# Altium footprint library 3006.PcbLib: 1 footprints
Each footprint in its own frame and in the unit in brackets; x right, y up, seen from the top. Pads: shape width x height; smd on the part's side, far side on the other; paste and mask are expansions set on the pad; w line width, h text height; cw(c..) or ccw(c..) is an arc to the next point about the centre after c.
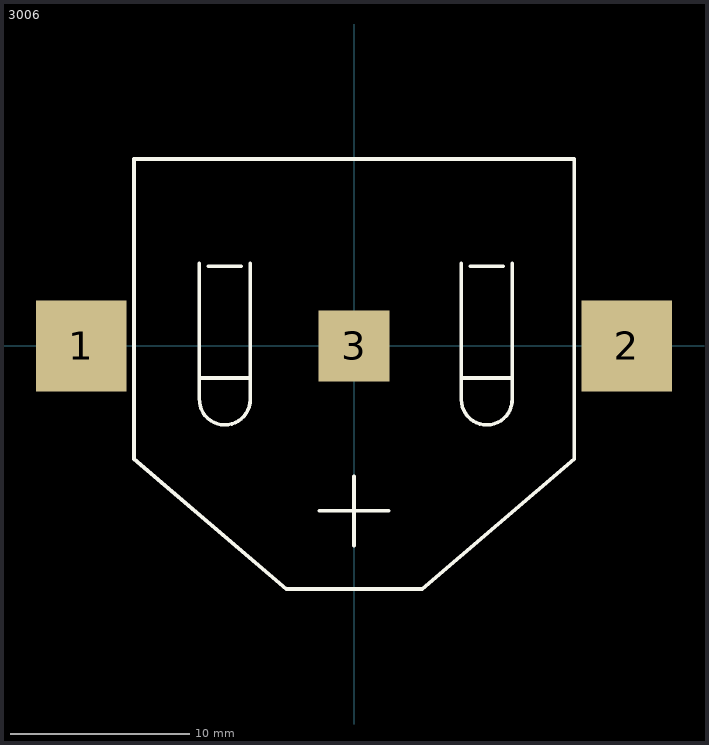
[diagram p0: the footprint, top view; thin cyan lines are the x and y axes]

## 3006 [mm] "24mm Coin Cell Battery Clip"
pads (3):
  rect 5.08x5.08 smd: 1(-15.24,0) 2(15.24,0)
  rect 3.96x3.96 smd: 3(0,0)
Top Overlay:
  lines w0.2: -12.294,-6.325 -12.294,10.439 12.319,10.439 12.319,-6.325 3.821,-13.589 -3.785,-13.589 -12.294,-6.317 ; -8.637,-3 -8.637,4.6 ; -8.637,-1.8 -5.797,-1.8 ; -8.636,-2.954 ccw(c-7.217,-3) -5.797,-3 -5.797,4.6 ; -8.137,4.45 -6.297,4.45 ; -1.95,-9.228 1.95,-9.228 ; 0,-11.178 0,-7.278 ; 6,-1.8 8.84,-1.8 ; 6,4.6 6,-3 ccw(c7.42,-3) 8.839,-2.954 ; 6.5,4.45 8.34,4.45 ; 8.84,-3 8.84,4.6
3D body: height 3.96, standoff 0, extent -12.294,-13.59 12.32,10.44